# Altium integrated library My_Library_Fuse_SMD.IntLib: 1 symbol
Pins are listed as number, name and electrical type; pins without a type are passive.

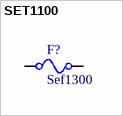
[diagram p0: symbol SET1100]

## SET1100
designator F?, comment Sef1300
FUSE SMD 1A 250V 6125 TIME-LAG; Response Time: Time Lag; Current Rating: 1A; Package: 2410
footprint SET1100_2510
pins: 1, 2